# EAGLE library part 7_VAL_SELECT (library p.peter-gator)
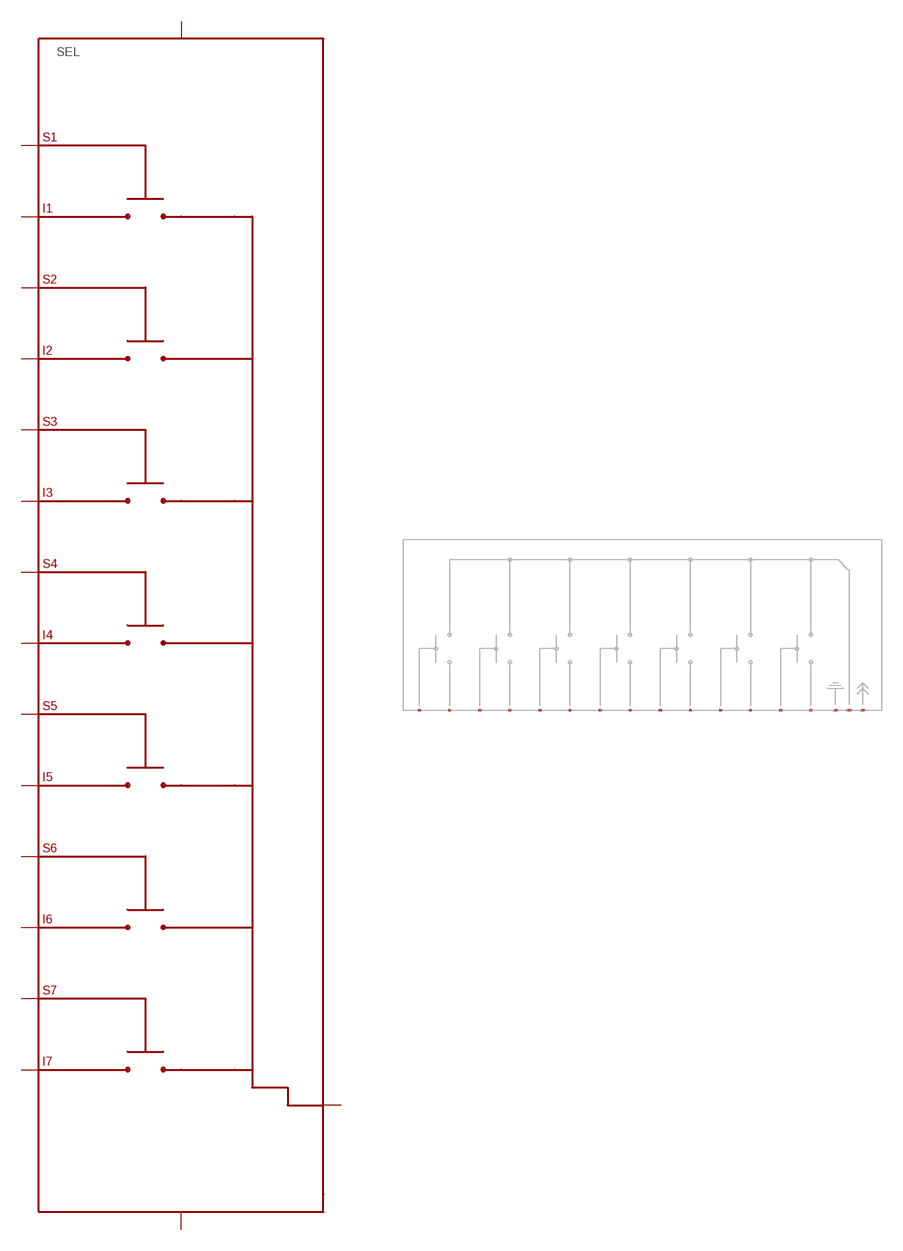
[diagram p3: symbol with the pads of SELECTOR-7_BIT-NOMUX; footprint SELECTOR-7_BIT-NOMUX]

Designator prefix SEL

## 7_VAL_SELECT  [SELECTOR-7_BIT-NOMUX]
_VN  _VN
_VP  _VP
I1  I1
I2  I2
I3  I3
I4  I4
I5  I5
I6  I6
I7  I7
OUT  OUT
S1  S1
S2  S2
S3  S3
S4  S4
S5  S5
S6  S6
S7  S7

## Footprint SELECTOR-7_BIT-NOMUX (pad centres in mm)
smd 0.2 x 0.2: _VN 31.6,0; _VP 33.6,0; I1 3.4,0; I2 7.8,0; I3 12.2,0; I4 16.6,0; I5 21,0; I6 25.4,0; I7 29.8,0; OUT 32.6,0; S1 1.2,0; S2 5.6,0; S3 10,0; S4 14.4,0; S5 18.8,0; S6 23.2,0; S7 27.6,0